# EAGLE library part LSM9DS1 (library daqcs)
iNEMO inertial module: 3D accelerometer, 3D gyroscope, 3D magnetometer 3 acceleration channels, 3 angular rate channels, 3 magnetic field channels
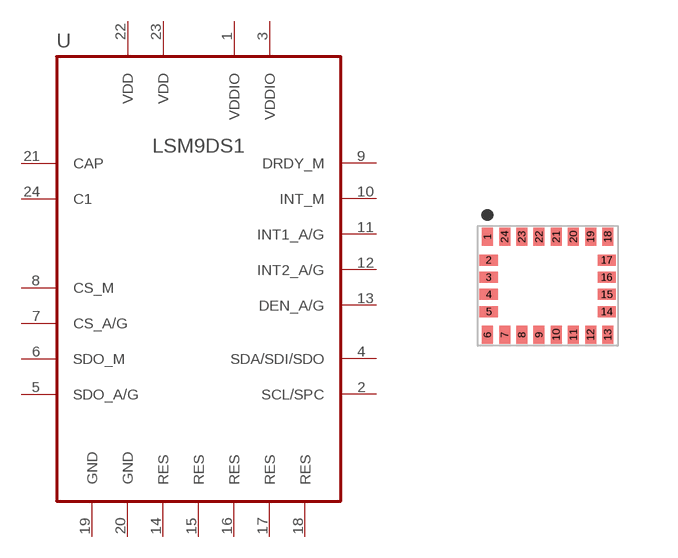
[diagram p18: symbol with the pads of LGA043P045X033-24N; footprint LGA043P045X033-24N]

Designator prefix U

## LSM9DS1TR_LGA24 (DATASHEET: HW/docs/projects/raspi_zero_power_sensor_hat/datasheets/sensors/en.DM00103319.pdf; FUNCTION: Accelerometer, Gyroscope, Magnetometer; INTERFACE: I2C/SPI; MANUFACTURER: STMicro; MANUFACTURER_PN: LSM9DS1TR; VALUE: LSM9DS1TR; VENDOR: Digi-key; VENDOR_PN: 497-14946-1-ND)  [LGA043P045X033-24N]
1  VDDIO  pwr
2  SCL/SPC  in
3  VDDIO  pwr
4  SDA/SDI/SDO
5  SDO_A/G  in
6  SDO_M  in
7  CS_A/G  in
8  CS_M  in
9  DRDY_M  out
10  INT_M  out
11  INT1_A/G  out
12  INT2_A/G  out
13  DEN_A/G
14  RES  pwr
15  RES  pwr
16  RES  pwr
17  RES  pwr
18  RES  pwr
19  GND  pwr
20  GND  pwr
21  CAP  pwr
22  VDD  pwr
23  VDD  pwr
24  C1  pwr

## Footprint LGA043P045X033-24N (pad centres in mm)
smd 0.275 x 0.45: 1 -1.505,1.225; 6 -1.505,-1.225; 7 -1.075,-1.225; 8 -0.645,-1.225; 9 -0.215,-1.225; 10 0.215,-1.225; 11 0.645,-1.225; 12 1.075,-1.225; 13 1.505,-1.225; 18 1.505,1.225; 19 1.075,1.225; 20 0.645,1.225; 21 0.215,1.225; 22 -0.215,1.225; 23 -0.645,1.225; 24 -1.075,1.225
smd 0.45 x 0.275: 2 -1.475,0.645; 3 -1.475,0.215; 4 -1.475,-0.215; 5 -1.475,-0.645; 14 1.475,-0.645; 15 1.475,-0.215; 16 1.475,0.215; 17 1.475,0.645